# EAGLE library part PICOBLADE_8_ (library CONNECTORs)
1.25mm pitch 1A connector. 8 way.
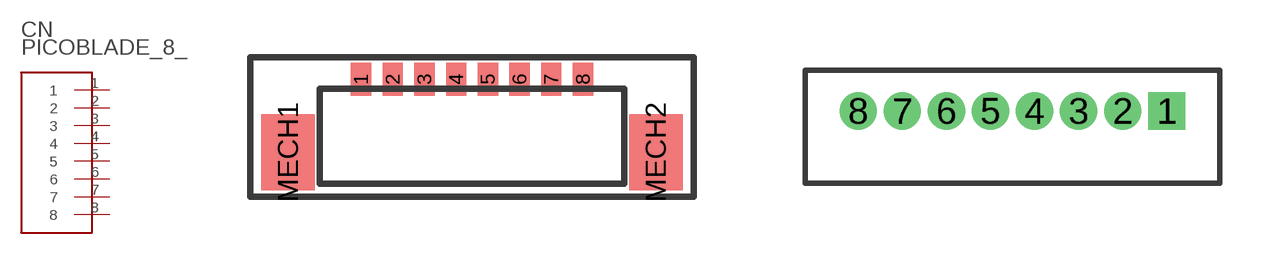
[diagram p13: symbol with the pads of MOLEX_0533980871; footprints MOLEX_0533980871, MOLEX_530470810]

Designator prefix CN

## PICOBLADE_8_SM_V (FARNELL: 1125371)  [MOLEX_0533980871]
1  1
2  2
3  3
4  4
5  5
6  6
7  7
8  8

## PICOBLADE_8_TH_V (FARNELL: 1012258)  [MOLEX_530470810]
Pads as for MOLEX_0533980871

## Footprint MOLEX_0533980871 (pad centres in mm)
smd 0.8 x 1.3: 1 -4.375,2.125; 2 -3.125,2.125; 3 -1.875,2.125; 4 -0.625,2.125; 5 0.625,2.125; 6 1.875,2.125; 7 3.125,2.125; 8 4.375,2.125
smd 2.1 x 3: MECH1 -7.25,-0.75; MECH2 7.25,-0.75

## Footprint MOLEX_530470810 (pad centres in mm)
drill 0.55 square: 1 4.375,0
drill 0.55: 2 3.125,0; 3 1.875,0; 4 0.625,0; 5 -0.625,0; 6 -1.875,0; 7 -3.125,0; 8 -4.375,0